# Altium footprint library CON FTSH-110-RA.PcbLib: 1 footprints
Each footprint in its own frame and in the unit in brackets; x right, y up, seen from the top. Pads: shape width x height; smd on the part's side, far side on the other; paste and mask are expansions set on the pad; w line width, h text height; cw(c..) or ccw(c..) is an arc to the next point about the centre after c.
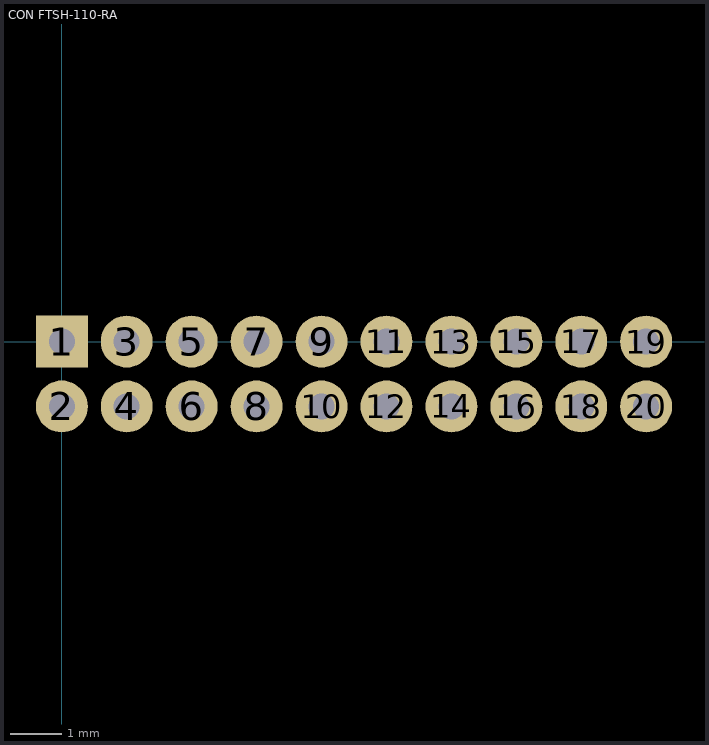
[diagram p0: the footprint, top view; thin cyan lines are the x and y axes]

## CON FTSH-110-RA [mil]
pads (20):
  rect 40x40 hole 20: 1(0,0)
  round 40 hole 20: 2(0,-50) 3(50,0) 4(50,-50) 5(100,0) 6(100,-50) 7(150,0) 8(150,-50) 9(200,0) 10(200,-50) 11(250,0) 12(250,-50) 13(300,0) 14(300,-50) 15(350,0) 16(350,-50) 17(400,0) 18(400,-50) 19(450,0) 20(450,-50)